# Altium schematic symbol library SMLP36.Schlib: 1 symbol
Pins are listed as number, name and electrical type; pins without a type are passive.

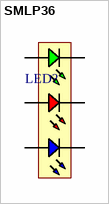
[diagram p0: symbol SMLP36]

## SMLP36
designator LED?, comment LED RGB  (value not drawn)
pins: 1 K, 2 A, 3 K, 4 A, 5 K, 6 A
1 alternate drawing of the same symbol